# Altium footprint library PcbLib1.PcbLib: 2 footprints
Each footprint in its own frame and in the unit in brackets; x right, y up, seen from the top. Pads: shape width x height; smd on the part's side, far side on the other; paste and mask are expansions set on the pad; w line width, h text height; cw(c..) or ccw(c..) is an arc to the next point about the centre after c.
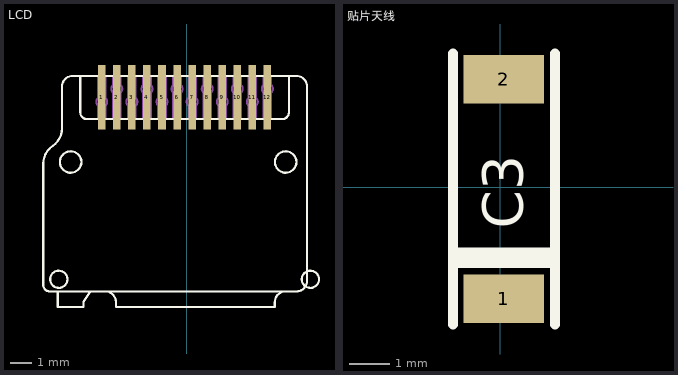
[diagram p0: the footprints below, top view; thin cyan lines are the x and y axes]

## LCD [mm]
pads (12):
  rect 0.35x3 smd paste+0.102 mask+0.051: 1(-3.946,-8.636) 2(-3.246,-8.636) 3(-2.546,-8.636) 4(-1.846,-8.636) 5(-1.146,-8.636) 6(-0.446,-8.636) 7(0.254,-8.636) 8(0.954,-8.636) 9(1.654,-8.636) 10(2.354,-8.636) 11(3.054,-8.636) 12(3.754,-8.636)
Top Overlay:
  circle w0.1: c-5.395,-11.644 r0.5
  circle w0.1: c5.754,-17.097 r0.4
  circle w0.1: c4.605,-11.644 r0.5
  circle w0.1: c-5.946,-17.097 r0.4
  lines w0.1: -6.669,-17.361 ccw(c-6.369,-17.361) -6.369,-17.661 -4.753,-17.661 4.596,-17.661 ccw(c4.597,-18.161) 4.097,-18.161 4.097,-18.387 -3.289,-18.387 -3.289,-18.159 ccw(c-3.791,-18.16) -3.753,-17.659 ; -6.669,-17.361 -6.669,-11.725 cw(c-5.669,-11.725) -6.233,-10.898 ccw(c-6.796,-10.072) -5.796,-10.072 -5.796,-8.144 cw(c-5.296,-8.144) -5.296,-7.644 5.104,-7.644 cw(c5.104,-8.144) 5.604,-8.144 5.604,-17.161 cw(c5.104,-17.161) 5.104,-17.661 ; -5.996,-17.661 -5.996,-18.387 -4.796,-18.387 -4.796,-18.145 -4.473,-17.661 ; -4.946,-7.644 -4.946,-9.344 ccw(c-4.646,-9.344) -4.646,-9.644 4.454,-9.644 ccw(c4.454,-9.344) 4.754,-9.344 4.754,-7.644 ; 4.597,-17.661 5.101,-17.661
Mechanical 15:
  circle w0.1: c3.754,-8.244 r0.1
  circle w0.1: c3.054,-8.844 r0.1
  circle w0.1: c2.354,-8.244 r0.1
  circle w0.1: c1.654,-8.844 r0.1
  circle w0.1: c0.954,-8.244 r0.1
  circle w0.1: c0.254,-8.844 r0.1
  circle w0.1: c-0.446,-8.244 r0.1
  circle w0.1: c-1.146,-8.844 r0.1
  circle w0.1: c-1.846,-8.244 r0.1
  circle w0.1: c-2.546,-8.844 r0.1
  circle w0.1: c-3.246,-8.244 r0.1
  circle w0.1: c-3.946,-8.844 r0.1
  lines w0.1: -4.121,-9.644 -4.121,-9.023 cw(c-3.946,-8.844) -4.121,-8.666 -4.121,-7.644 ; -4.046,-7.644 ccw(c-3.946,-7.644) -3.846,-7.644 ; -3.771,-9.644 -3.771,-9.023 ccw(c-3.946,-8.844) -3.771,-8.666 -3.771,-7.644 ; -3.421,-9.644 -3.421,-8.423 cw(c-3.246,-8.244) -3.421,-8.066 -3.421,-7.644 ; -3.346,-7.644 ccw(c-3.246,-7.644) -3.146,-7.644 ; -3.071,-9.644 -3.071,-8.423 ccw(c-3.246,-8.244) -3.071,-8.066 -3.071,-7.644 ; -2.721,-9.644 -2.721,-9.023 cw(c-2.546,-8.844) -2.721,-8.666 -2.721,-7.644 ; -2.646,-7.644 ccw(c-2.546,-7.644) -2.446,-7.644 ; -2.371,-9.644 -2.371,-9.023 ccw(c-2.546,-8.844) -2.371,-8.666 -2.371,-7.644 ; -2.021,-9.644 -2.021,-8.423 cw(c-1.846,-8.244) -2.021,-8.066 -2.021,-7.644 ; -1.946,-7.644 ccw(c-1.846,-7.644) -1.746,-7.644 ; -1.671,-9.644 -1.671,-8.423 ccw(c-1.846,-8.244) -1.671,-8.066 -1.671,-7.644 ; -1.321,-9.644 -1.321,-9.023 cw(c-1.146,-8.844) -1.321,-8.666 -1.321,-7.644 ; -1.246,-7.644 ccw(c-1.146,-7.644) -1.046,-7.644 ; -0.971,-9.644 -0.971,-9.023 ccw(c-1.146,-8.844) -0.971,-8.666 -0.971,-7.644 ; -0.621,-9.644 -0.621,-8.423 cw(c-0.446,-8.244) -0.621,-8.066 -0.621,-7.644 ; -0.546,-7.644 ccw(c-0.446,-7.644) -0.346,-7.644 ; -0.271,-9.644 -0.271,-8.423 ccw(c-0.446,-8.244) -0.271,-8.066 -0.271,-7.644 ; 0.079,-9.644 0.079,-9.023 cw(c0.254,-8.844) 0.079,-8.666 0.079,-7.644 ; 0.154,-7.644 ccw(c0.254,-7.644) 0.354,-7.644 ; 0.429,-9.644 0.429,-9.023 ccw(c0.254,-8.844) 0.429,-8.666 0.429,-7.644 ; 0.779,-9.644 0.779,-8.423 cw(c0.954,-8.244) 0.779,-8.066 0.779,-7.644 ; 0.854,-7.644 ccw(c0.954,-7.644) 1.054,-7.644 ; 1.129,-9.644 1.129,-8.423 ccw(c0.954,-8.244) 1.129,-8.066 1.129,-7.644 ; 1.479,-9.644 1.479,-9.023 cw(c1.654,-8.844) 1.479,-8.666 1.479,-7.644 ; 1.554,-7.644 ccw(c1.654,-7.644) 1.754,-7.644 ; 1.829,-9.644 1.829,-9.023 ccw(c1.654,-8.844) 1.829,-8.666 1.829,-7.644 ; 2.179,-9.644 2.179,-8.423 cw(c2.354,-8.244) 2.179,-8.066 2.179,-7.644 ; 2.254,-7.644 ccw(c2.354,-7.644) 2.454,-7.644 ; 2.529,-9.644 2.529,-8.423 ccw(c2.354,-8.244) 2.529,-8.066 2.529,-7.644 ; 2.879,-9.644 2.879,-9.023 cw(c3.054,-8.844) 2.879,-8.666 2.879,-7.644 ; 2.954,-7.644 ccw(c3.054,-7.644) 3.154,-7.644 ; 3.229,-9.644 3.229,-9.023 ccw(c3.054,-8.844) 3.229,-8.666 3.229,-7.644 ; 3.579,-9.644 3.579,-8.423 cw(c3.754,-8.244) 3.579,-8.066 3.579,-7.644 ; 3.654,-7.644 ccw(c3.754,-7.644) 3.854,-7.644 ; 3.929,-9.644 3.929,-8.423 ccw(c3.754,-8.244) 3.929,-8.066 3.929,-7.644

## 贴片天线 [mm]
pads (2):
  rect 2x1.2 smd: 1(0.092,-2.779) 2(0.092,2.682)
Top Overlay:
  rectangle: -1.178,-2.017 1.235,-1.509
  lines w0.254: -1.178,-3.414 -1.178,3.317 ; 1.362,-3.414 1.362,3.317
  text "C3" at 0.564,-1.036 h1